# Altium integrated library TL59NF160Q.IntLib: 1 symbol
Pins are listed as number, name and electrical type; pins without a type are passive.

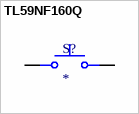
[diagram p0: symbol TL59NF160Q]

## TL59NF160Q
designator S?
SWITCH TACTILE SPST-NO 0.05A 12V; MF: E-Switch; MP: TL59NF160Q; Purchase-URL: https://pricing.snapeda.com/search/part/TL59NF160Q/?ref=eda; Package: None; Value: *; SnapEDA_Link: https://www.snapeda.com/parts/TL59NF160Q/E-Switch/view-part/?ref=snap; Check_prices: https://www.snapeda.com/parts/TL59NF160Q/E-Switch/view-part/?ref=eda; Price: None; Availability: In Stock
footprint SW_TL59NF160Q
pins: 1, 2